# Altium schematic symbol library Optoelectronics.SchLib: 9 symbols
Pins are listed as number, name and electrical type; pins without a type are passive.

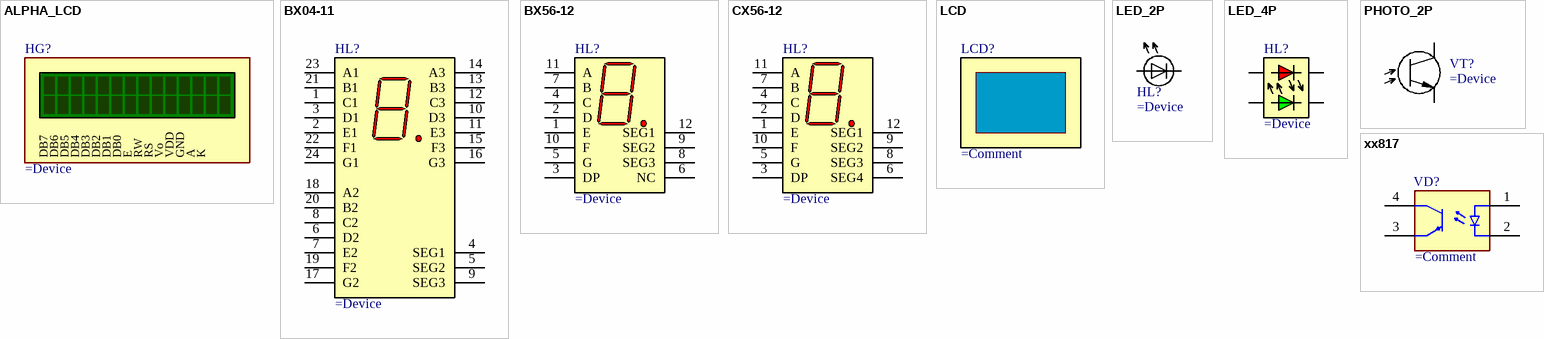
[diagram p0: symbols ALPHA_LCD to xx817]

## ALPHA_LCD
designator HG?
text: DB7; DB6; DB5; DB4; DB3; DB2; DB1; DB0; E; RW; RS; Vo; VDD; GND; A; K

## BX04-11
designator HL?
pins: 1 C1, 2 E1, 3 D1, 4 SEG1, 5 SEG2, 6 D2, 7 E2, 8 C2, 9 SEG3, 10 D3, 11 E3, 12 C3, 13 B3, 14 A3, 15 F3, 16 G3, 17 G2, 18 A2, 19 F2, 20 B2, 21 B1, 22 F1, 23 A1, 24 G1

## BX56-12
designator HL?
pins: 1 E, 2 D, 3 DP, 4 C, 5 G, 6 NC, 7 B, 8 SEG3, 9 SEG2, 10 F, 11 A, 12 SEG1

## CX56-12
designator HL?
pins: 1 E, 2 D, 3 DP, 4 C, 5 G, 6 SEG4, 7 B, 8 SEG3, 9 SEG2, 10 F, 11 A, 12 SEG1

## LCD
designator LCD?

## LED_2P
designator HL?
pins: A, K

## LED_4P
designator HL?
pins: 1, 2, 3, 4

## PHOTO_2P
designator VT?
pins: 1 C, 2 E

## xx817
designator VD?
pins: 1, 2, 3 E, 4 C